# Altium footprint library CAN2XG.PcbLib: 27 footprints (part 1 of 2)
Each footprint in its own frame and in the unit in brackets; x right, y up, seen from the top. Pads: shape width x height; smd on the part's side, far side on the other; paste and mask are expansions set on the pad; w line width, h text height; cw(c..) or ccw(c..) is an arc to the next point about the centre after c.
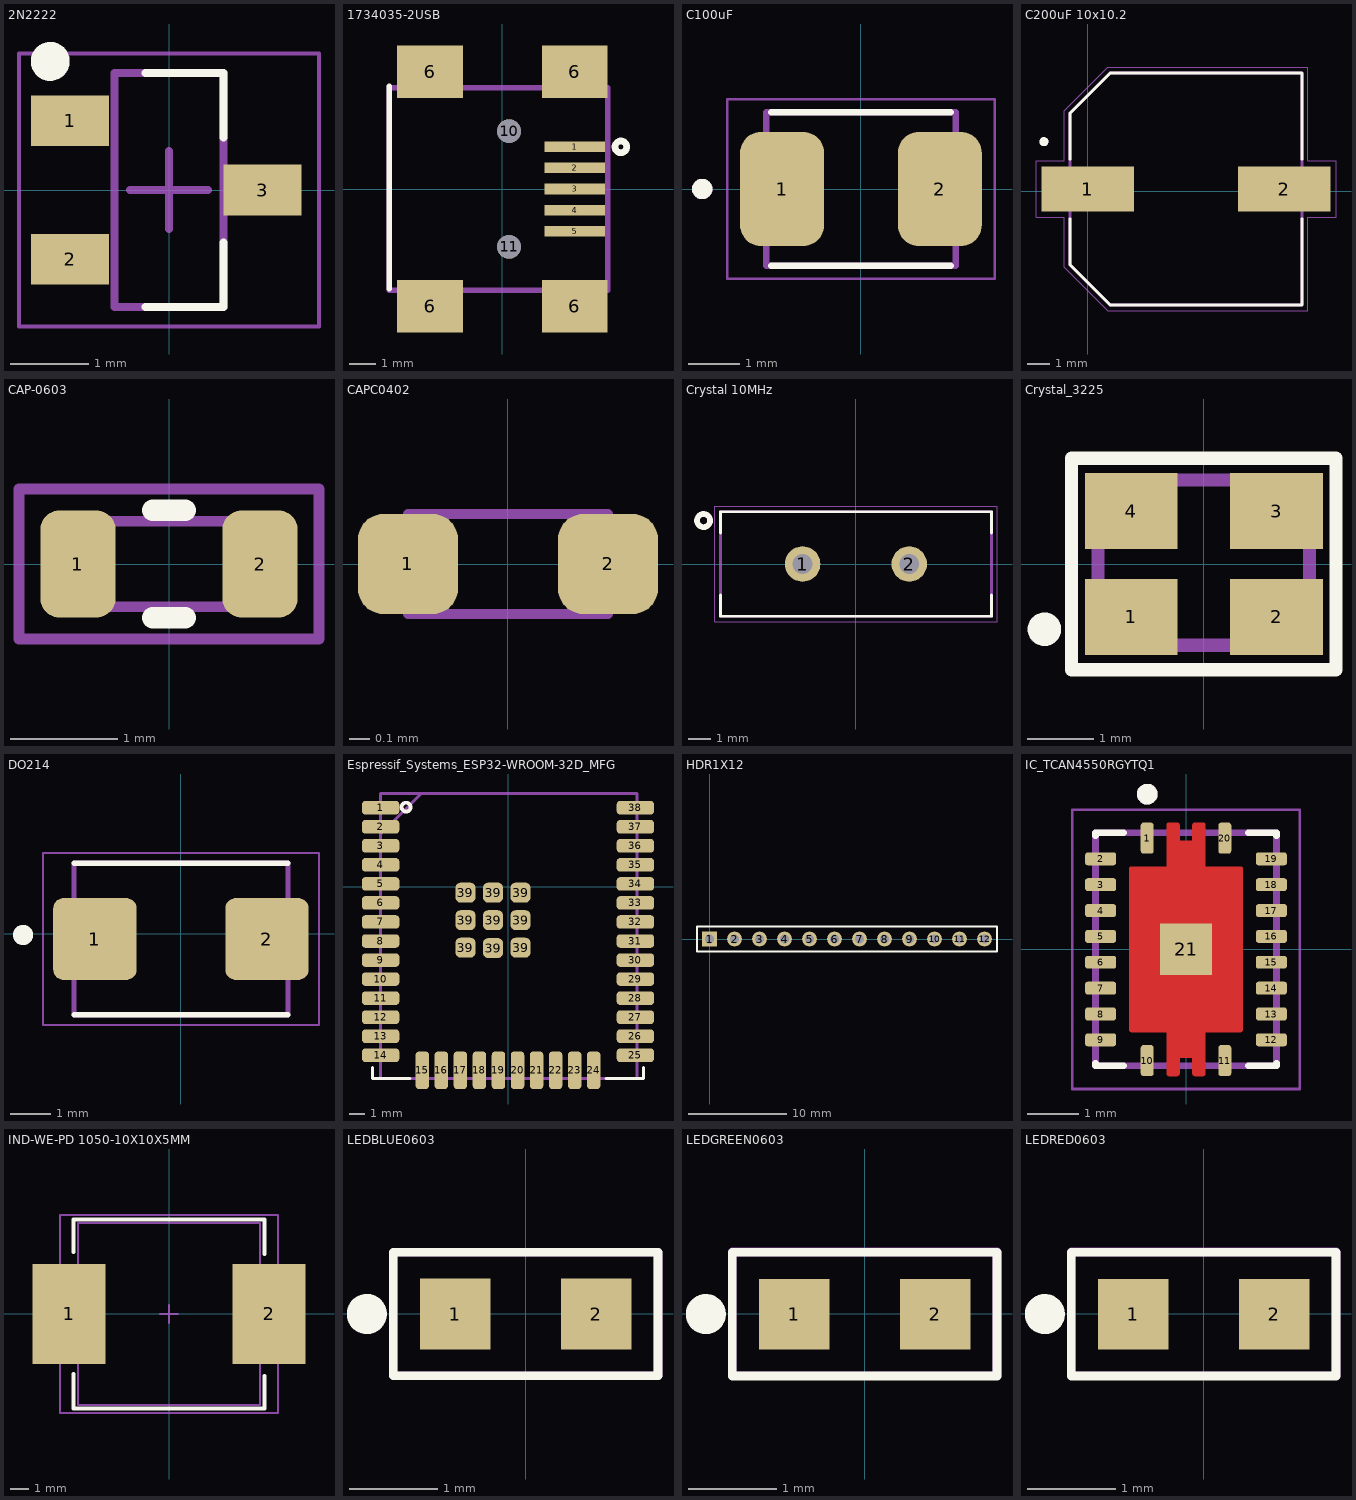
[diagram p0: the footprints below, top view; thin cyan lines are the x and y axes]

## 2N2222 [mm] "MMBT2222"
pads (3):
  rect 1x0.65 smd: 1(-1.27,0.889) 2(-1.27,-0.889) 3(1.2,0)
Top Overlay:
  circle w0.25: c-1.524,1.651 r0.125
  lines w0.1: -0.3,-1.5 0.7,-1.5 0.7,-0.675 ; -0.3,1.5 0.7,1.5 0.7,0.675
Top Assembly:
  lines w0.1: -0.7,-1.5 -0.7,1.5 0.7,1.5 0.7,-1.5 -0.7,-1.5
Top Courtyard:
  lines w0.05: -1.925,-1.75 -1.925,1.75 1.925,1.75 1.925,-1.75 -1.925,-1.75
  lines w0.1: -0.5,0 0.5,0 ; 0,-0.5 0,0.5
3D body "2N2222SOT-23.step": height 1.1, standoff 0, extent -1.25,-1.476 1.25,1.524

## 1734035-2USB [mm]
height 12.93
pads (11):
  rect 2.3x0.4 smd: 1(2.75,1.6) 2(2.75,0.8) 3(2.75,0) 4(2.75,-0.8) 5(2.75,-1.6)
  rect 2.5x2 smd: 6(-2.75,-4.45) 6(-2.75,4.45) 6(2.75,-4.45) 6(2.75,4.45)
  round 0.9 hole 0.9 unplated: 10(0.25,2.2) 11(0.25,-2.2)
Top Overlay:
  circle w0.254: c4.5,1.6 r0.224
  lines w0.2: -4.3,-3.8 -4.3,3.9
Top Assembly:
  lines w0.2: -4.3,-3.85 4,-3.85 4,3.85 -4.3,3.85 -4.3,-3.85
  text "'.Designator'" at -1,-0.8 h1.2
3D body "1734035-2.stp": height 4.14, standoff -0.95, extent -5.75,-4.95 3.45,4.95

## C100uF [mm] "Tantalum Capacitor 3528"
pads (2):
  rrect50% 1.64x2.23 smd: 1(-1.54,0) 2(1.54,0)
Top Overlay:
  circle w0.2: c-3.1,0 r0.1
  lines w0.127: -1.75,-1.5 1.75,-1.5 ; -1.75,1.5 1.75,1.5
Top Assembly:
  circle w0.2: c-3.1,0 r0.1
  lines w0.127: -1.85,-1.5 1.85,-1.5 1.85,1.5 -1.85,1.5 -1.85,-1.5
Top Courtyard:
  lines w0.05: -2.61,-1.75 2.61,-1.75 2.61,1.75 -2.61,1.75 -2.61,-1.75
3D body "tantalum3528T491B155K035AT.STEP": height 2.1, standoff 0, extent -1.75,-1.4 1.75,1.4

## C200uF 10x10.2 [mm] "Electrolytic Capacitor"
pads (2):
  rect 4.1x2 smd: 1(0.001,0.098) 2(8.701,0.098)
Top Overlay:
  circle w0.2: c-1.949,2.198 r0.1
  lines w0.127: -0.799,-1.222 -0.799,-3.252 1.001,-5.052 9.501,-5.052 9.501,-1.222 ; -0.799,1.418 -0.799,3.448 1.001,5.248 9.501,5.248 9.501,1.418
Top Assembly:
  circle w0.2: c-1.949,2.198 r0.1
  circle w0.2: c-1.949,2.198 r0.1
  lines w0.127: -0.799,-3.252 1.001,-5.052 ; -0.799,-3.252 1.001,-5.052 ; -0.799,-3.252 -0.799,3.448 ; -0.799,-3.252 -0.799,3.448 ; -0.799,3.448 1.001,5.248 ; -0.799,3.448 1.001,5.248 ; 1.001,-5.052 9.501,-5.052 ; 1.001,-5.052 9.501,-5.052 ; 1.001,5.248 9.501,5.248 ; 1.001,5.248 9.501,5.248 ; 9.501,-5.052 9.501,5.248 ; 9.501,-5.052 9.501,5.248
Top Courtyard:
  lines w0.05: -2.299,-1.152 -1.049,-1.152 -1.049,-3.377 0.876,-5.302 9.751,-5.302 9.751,-1.152 11.001,-1.152 11.001,1.348 9.751,1.348 9.751,5.498 0.876,5.498 -1.049,3.573 -1.049,1.348 -2.299,1.348 -2.299,-1.152
3D body "EEE-HB1A471P(200uF).STEP": height 10.3, standoff 0.1, extent -1.278,-4.896 10.422,5.404

## CAP-0603 [mm]
height 0.8
pads (2):
  rrect50% 0.7x1 smd: 1(-0.85,0) 2(0.85,0)
Top Overlay:
  lines w0.2: -0.15,-0.5 0.15,-0.5 ; -0.15,0.5 0.15,0.5
Top Assembly:
  lines w0.1: -1.4,-0.7 1.4,-0.7 1.4,0.7 -1.4,0.7 -1.4,-0.7
Top 3D Body:
  lines w0.1: -0.8,-0.4 -0.8,0.4 0.8,0.4 0.8,-0.4 -0.8,-0.4
3D body "CAP-0603.step": height 0.8, standoff 0, extent -0.8,-0.4 0.8,0.4

## CAPC0402 [mm]
pads (2):
  rrect50% 0.5x0.5 smd: 1(-0.5,0) 2(0.5,0)
Mechanical 13:
  lines w0.051: -0.5,-0.25 -0.5,0.25 0.5,0.25 0.5,-0.25 -0.5,-0.25
3D body "C0402_045.step": height 0.42, standoff -0.03, extent -0.5,-0.25 0.5,0.25

## Crystal 10MHz [mm] "leaded"
pads (2):
  round 1.6 hole 0.9: 1(-2.4,0) 2(2.4,0)
Top Overlay:
  circle w0.254: c-6.858,1.956 r0.296
  lines w0.127: -6.096,-1.4 -6.096,-2.35 6.096,-2.35 6.096,-1.4 ; -6.096,1.4 -6.096,2.35 6.096,2.35 6.096,1.4
Top Assembly:
  lines w0.127: -6.096,-2.35 -6.096,2.35 6.096,2.35 6.096,-2.35 -6.096,-2.35
Top Courtyard:
  lines w0.05: -6.35,-2.6 -6.35,2.6 6.35,2.6 6.35,-2.6 -6.35,-2.6
3D body "hc49us_throughHole.step": height 3.5, standoff -3, extent -5.75,-2.325 5.75,2.325

## Crystal_3225 [mm] "3225 pack"
pads (4):
  rect 1.4x1.15 smd: 1(-1.1,-0.8) 2(1.1,-0.8) 3(1.1,0.8) 4(-1.1,0.8)
Top Overlay:
  circle w0.254: c-2.411,-0.987 r0.127
  lines w0.2: -2,-1.6 -2,1.6 2,1.6 2,-1.6 -2,-1.6
Mechanical 13:
  circle w0.254: c-1.015,-0.809 r0.127
  lines w0.2: -1.6,-1.23 -1.6,1.27 1.6,1.27 1.6,-1.23 -1.6,-1.23
3D body "User Library-tsx-3225.STEP": height 0.6, standoff 0, extent -1.6,-1.23 1.6,1.27

## DO214 [mm] "1N4007"
pads (2):
  rrect25% 2.06x2.02 smd: 1(-2.125,-0.127) 2(2.125,-0.127)
Top Overlay:
  circle w0.3: c-3.9,-0.027 r0.1
  lines w0.127: -2.64,-1.997 2.64,-1.997 ; -2.64,1.743 2.64,1.743
Top Assembly:
  circle w0.3: c-2,-0.027 r0.1
  lines w0.127: -2.64,-1.997 2.64,-1.997 2.64,1.743 -2.64,1.743 -2.64,-1.997
Top Courtyard:
  lines w0.05: -3.41,-2.247 3.41,-2.247 3.41,1.993 -3.41,1.993 -3.41,-2.247
3D body "DO-214AA(SMB).step": height 2.64, standoff 0, extent -2.794,-2.102 2.794,1.848

## Espressif_Systems_ESP32-WROOM-32D_MFG [mm]
height 12.93
pads (47):
  rrect50% 2.5x0.9 smd paste+0 mask+0: 1(-8.5,5.26) 2(-8.5,3.99) 3(-8.5,2.72) 4(-8.5,1.45) 5(-8.5,0.18) 6(-8.5,-1.09) 7(-8.5,-2.36) 8(-8.5,-3.63) 9(-8.5,-4.9) 10(-8.5,-6.17) 11(-8.5,-7.44) 12(-8.5,-8.71) 13(-8.5,-9.98) 14(-8.5,-11.25) 25(8.5,-11.25) 26(8.5,-9.98) 27(8.5,-8.71) 28(8.5,-7.44) 29(8.5,-6.17) 30(8.5,-4.9) 31(8.5,-3.63) 32(8.5,-2.36) 33(8.5,-1.09) 34(8.5,0.18) 35(8.5,1.45) 36(8.5,2.72) 37(8.5,3.99) 38(8.5,5.26)
  rrect50% 0.9x2.5 smd paste+0 mask+0: 15(-5.715,-12.25) 16(-4.445,-12.25) 17(-3.175,-12.25) 18(-1.905,-12.25) 19(-0.635,-12.25) 20(0.635,-12.25) 21(1.905,-12.25) 22(3.175,-12.25) 23(4.445,-12.25) 24(5.715,-12.25)
  rrect50% 1.33x1.33 smd paste+0 mask+0: 39(-2.835,-4.075) 39(-2.835,-2.24) 39(-2.835,-0.405) 39(-1,-4.1) 39(-1,-2.24) 39(-1,-0.405) 39(0.835,-4.075) 39(0.835,-2.24) 39(0.835,-0.405)
Top Overlay:
  circle w0.25: c-6.8,5.3 r0.3
  lines w0.2: -9.05,-12.075 -9.05,-12.8 -6.54,-12.8 ; 6.54,-12.8 9.05,-12.8 9.05,-12.075
Top Assembly:
  lines w0.2: -8.5,3.5 -5.8,6.2 -5.5,6.2 ; -8.6,-12.8 8.6,-12.8 8.6,6.2 -8.5,6.2 -8.5,-12.7 -8.6,-12.8
  text "'.Designator'" at -4.5,-3.2 h1.2
3D body "UNK_Espressif_Systems_ESP32-WROOM-32D_eec.STEP": height 3.2, standoff 0, extent -9,-12.75 9,12.75

## HDR1X12 [mm] "Connector; Header; 12 Position"
height 2.54
pads (12):
  rect 1.5x1.5 hole 0.9: 1(0,0)
  round 1.5 hole 0.9: 2(2.54,0) 3(5.08,0) 4(7.62,0) 5(10.16,0) 6(12.7,0) 7(15.24,0) 8(17.78,0) 9(20.32,0) 10(22.86,0) 11(25.4,0) 12(27.94,0)
Top Overlay:
  lines w0.2: -1.27,-1.27 29.21,-1.27 29.21,1.27 0.635,1.27 -1.27,1.27 -1.27,-1.27

## IC_TCAN4550RGYTQ1 [mm]
pads (21):
  rrect42% 0.25x0.6 smd mask+0: 1(-0.75,2.15) 10(-0.75,-2.15) 11(0.75,-2.15) 20(0.75,2.15)
  rrect42% 0.6x0.25 smd mask+0: 2(-1.65,1.75) 3(-1.65,1.25) 4(-1.65,0.75) 5(-1.65,0.25) 6(-1.65,-0.25) 7(-1.65,-0.75) 8(-1.65,-1.25) 9(-1.65,-1.75) 12(1.65,-1.75) 13(1.65,-1.25) 14(1.65,-0.75) 15(1.65,-0.25) 16(1.65,0.25) 17(1.65,0.75) 18(1.65,1.25) 19(1.65,1.75)
  rect 1x1 smd paste-1 mask+0: 21(0,0)
Top Layer:
  region: 380 vertices and 0 holes, not listed, extent -1.1,-2.45 1.1,2.45
Top Overlay:
  circle w0.2: c-0.75,3 r0.1
  lines w0.127: -1.75,-2.2 -1.75,-2.25 -1.2,-2.25 ; -1.75,2.2 -1.75,2.25 -1.2,2.25 ; 1.2,-2.25 1.75,-2.25 1.75,-2.2 ; 1.2,2.25 1.75,2.25 1.75,2.2
Top Paste:
  drawing of 6 lines, arcs and shapes, not listed
Top Solder:
  drawing of 21 lines, arcs and shapes, not listed
Mechanical 13:
  circle w0.2: c-0.75,3 r0.1
  lines w0.127: -1.75,-2.25 1.75,-2.25 1.75,2.25 -1.75,2.25 -1.75,-2.25
Mechanical 15:
  lines w0.05: -2.2,-2.7 -2.2,2.7 2.2,2.7 2.2,-2.7 -2.2,-2.7
3D body "TCAN4550RGYTQ1.STEP": height 1, standoff 0, extent -1.75,-2.25 1.75,2.25

## IND-WE-PD 1050-10X10X5MM [mm] "SMD Inductor, 2-Leads, Body 10,0x10.2,X5"
height 5
pads (2):
  rect 4x5.5 smd: 1(-5.5,0) 2(5.5,0)
Top Overlay:
  lines w0.2: -5.25,-3.3 -5.25,-5.2 -2.625,-5.2 2.625,-5.2 5.25,-5.2 5.25,-3.4 ; -5.25,3.4 -5.25,5.2 5.25,5.2 5.25,3.3
Top Assembly:
  lines w0.1: -0.5,0 0.5,0 ; 0,-0.5 0,0.5 ; -6,-5.45 -6,5.45 6,5.45 6,-5.45 -6,-5.45 ; -5,-5 5,-5 5,5 -5,5 -5,-5
  text "'.Designator'" at 0,-0.5 h1
3D body "7447714xx.stp": height 4.75, standoff -0.05, extent -5,-5 5,5

## LEDBLUE0603 [mm]
height 0.8
pads (2):
  rect 0.8x0.8 smd: 1(-0.8,-0.002) 2(0.8,-0.002)
Top Overlay:
  circle w0.254: c-1.8,-0.002 r0.1
  lines w0.1: -1.5,-0.702 1.5,-0.702 1.5,0.698 -1.5,0.698 -1.5,-0.702
Top Assembly:
  lines w0.1: -1.5,-0.702 -1.5,0.698 1.5,0.698 1.5,-0.702 -1.5,-0.702
  text "'.Designator'" at -0.5,-0.5 h1
3D body "User Library-LED_0603_B.STEP": height 0.6, standoff 0, extent -0.821,-0.378 0.779,0.422

## LEDGREEN0603 [mm]
height 0.8
pads (2):
  rect 0.8x0.8 smd: 1(-0.8,-0.002) 2(0.8,-0.002)
Top Overlay:
  circle w0.254: c-1.8,-0.002 r0.1
  lines w0.1: -1.5,-0.702 1.5,-0.702 1.5,0.698 -1.5,0.698 -1.5,-0.702
Top Assembly:
  lines w0.1: -1.5,-0.7 -1.5,0.7 1.5,0.7 1.5,-0.7 -1.5,-0.7
  text "'.Designator'" at -0.6,-0.5 h1
3D body "User Library-LED_0603_G.STEP": height 0.6, standoff 0, extent -0.8,-0.402 0.8,0.398

## LEDRED0603 [mm]
height 0.8
pads (2):
  rect 0.8x0.8 smd: 1(-0.8,-0.002) 2(0.8,-0.002)
Top Overlay:
  circle w0.254: c-1.8,-0.002 r0.1
  lines w0.1: -1.5,-0.702 1.5,-0.702 1.5,0.698 -1.5,0.698 -1.5,-0.702
Top Assembly:
  lines w0.1: -1.5,-0.7 -1.5,0.7 1.5,0.7 1.5,-0.7 -1.5,-0.7
  text "'.Designator'" at -0.7,-0.5 h1
3D body "User Library-LED_0603_R.STEP": height 0.6, standoff 0, extent -0.799,-0.384 0.801,0.416